# EAGLE library part MAX6651 (library Brett)
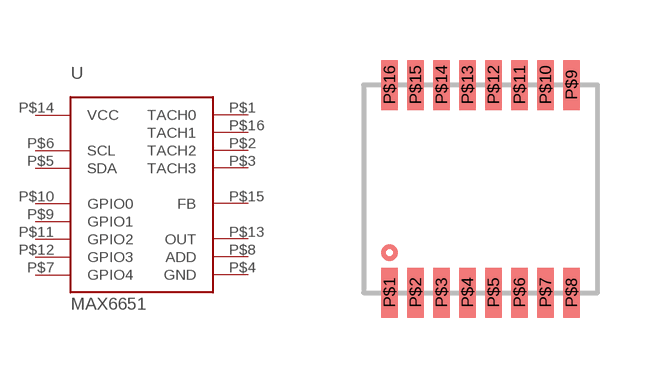
[diagram p1: symbol with the pads of QSOP16; footprint QSOP16]

Designator prefix -

## MAX6651  [QSOP16]
P$1  TACH0
P$2  TACH2
P$3  TACH3
P$4  GND
P$5  SDA
P$6  SCL
P$7  GPIO4
P$8  ADD
P$9  GPIO1
P$10  GPIO0
P$11  GPIO2
P$12  GPIO3
P$13  OUT
P$14  VCC
P$15  FB
P$16  TACH1

## Footprint QSOP16 (pad centres in mm)
smd 0.42 x 1.25: P$1 0,0; P$2 0.65,0; P$3 1.3,0; P$4 1.95,0; P$5 2.6,0; P$6 3.25,0; P$7 3.9,0; P$8 4.55,0; P$9 4.55,5.2; P$10 3.9,5.2; P$11 3.25,5.2; P$12 2.6,5.2; P$13 1.95,5.2; P$14 1.3,5.2; P$15 0.65,5.2; P$16 0,5.2